# EAGLE library part ASSMANN_WSW_COMPONENTS_ASUB-277-37TP25 (library Upverter Library)
CONN D-SUB PLUG/RCPT 37POS R/A
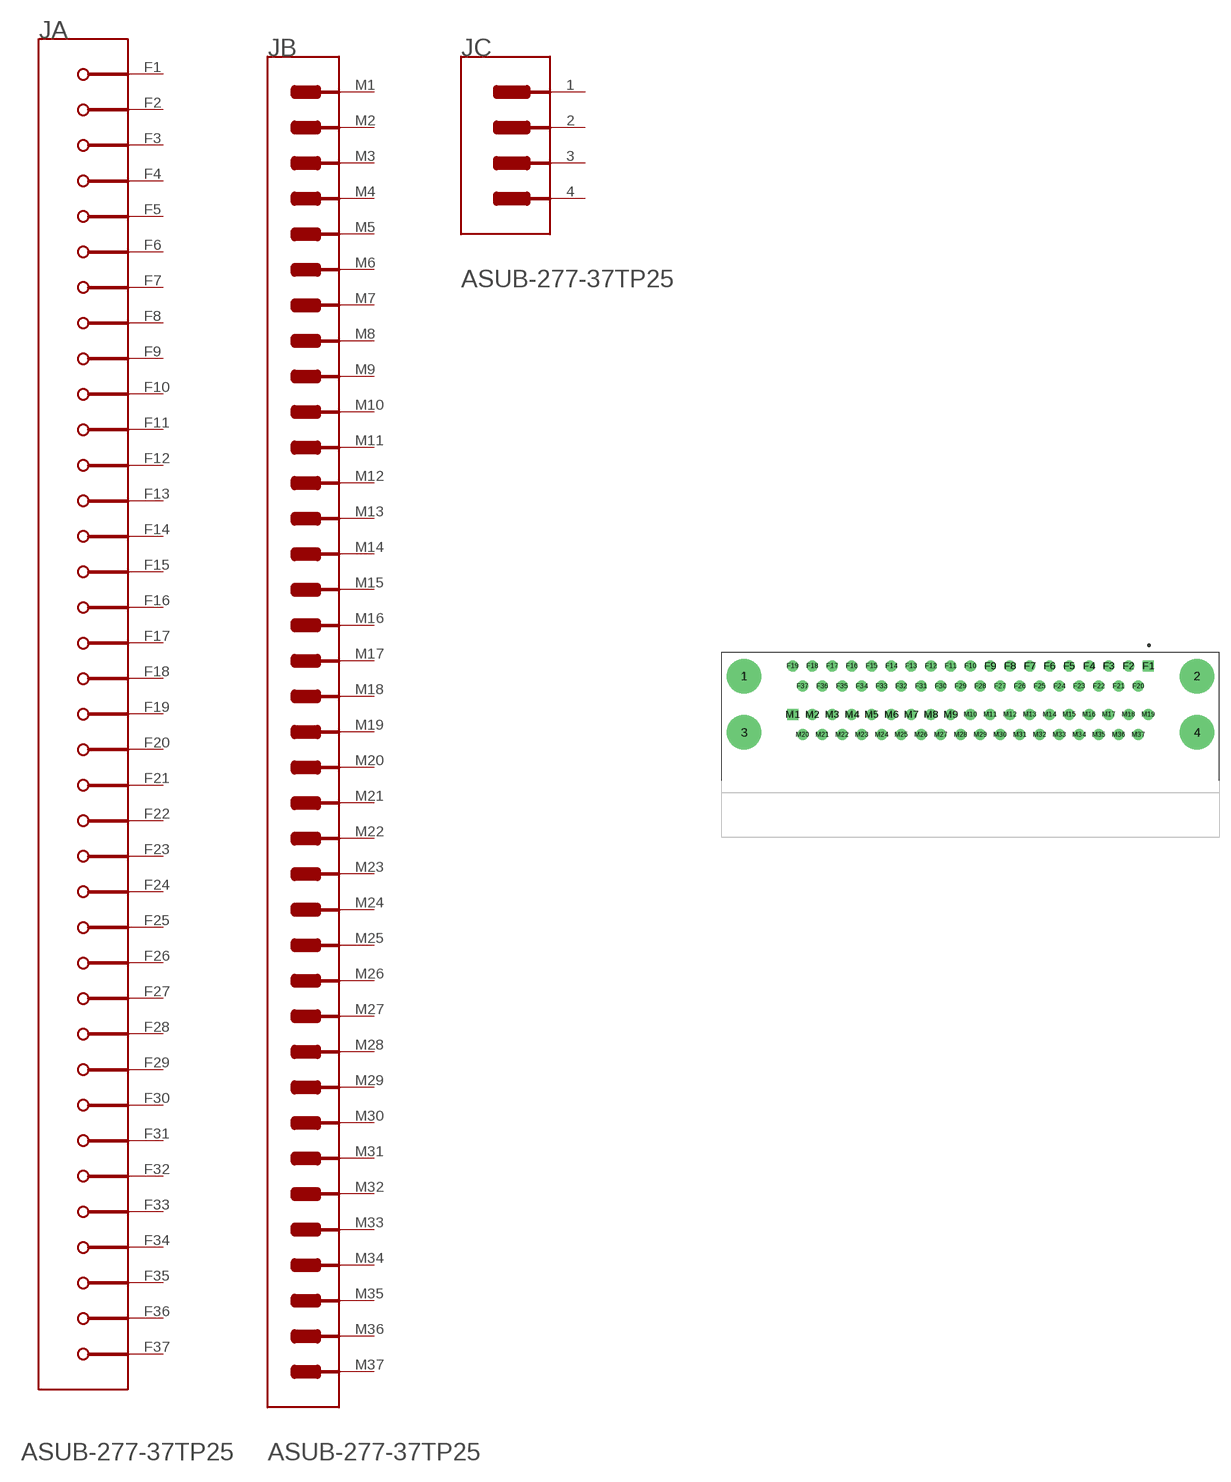
[diagram p0: symbol with the pads of ASSMANN_WSW_COMPONENTS_ASUB-277-37TP25_0; footprint ASSMANN_WSW_COMPONENTS_ASUB-277-37TP25_0]

Designator prefix J; gates A=ASSMANN_WSW_COMPONENTS_ASUB-277-37TP25_0_0 B=ASSMANN_WSW_COMPONENTS_ASUB-277-37TP25_0_1 C=ASSMANN_WSW_COMPONENTS_ASUB-277-37TP25_0_2

## ASSMANN_WSW_COMPONENTS_ASUB-277-37TP25ASSMANN_WSW_COMPONENTS_ASUB-277-37TP25_0_0 (MF: ASSMANN WSW Components; MPN: ASUB-277-37TP25; automotive: No; centroid_not_specified: No; conn_orientation: Right Angle; contact_material: Gold,Nickel; current_rating: 3A; datasheet: http://www.assmann-wsw.com/fileadmin/datasheets/ASS_6549_CO.pdf; device_class_L1: Connectors; device_class_L2: D-Sub Connectors; device_class_L3: unset; digikey_description: CONN D-SUB PLUG/RCPT 37POS R/A; digikey_part_number: AE10967-ND; footprint_variant_name_0: Recommended_Land_Pattern; height: 32.05mm; is_female: yes; lead_free: Yes; mfg_package_ident: 0; mfg_package_ident_date: 0; mfg_package_ident_rev: 0; number_of_contacts: 74; package: CONN_D-SUB37_DUAL; pitch: 2.77mm; prefix: J; rohs: Yes; shielding: true; temperature_range_high: +105°C; temperature_range_low: -55°C; verification_version: 0.0.0.3; voltage_rating: 250V)  [ASSMANN_WSW_COMPONENTS_ASUB-277-37TP25_0]
1  C:MNT_1  pas
2  C:MNT_2  pas
3  C:MNT_3  pas
4  C:MNT_4  pas
F1  A:F1  pas
F2  A:F2  pas
F3  A:F3  pas
F4  A:F4  pas
F5  A:F5  pas
F6  A:F6  pas
F7  A:F7  pas
F8  A:F8  pas
F9  A:F9  pas
F10  A:F10  pas
F11  A:F11  pas
F12  A:F12  pas
F13  A:F13  pas
F14  A:F14  pas
F15  A:F15  pas
F16  A:F16  pas
F17  A:F17  pas
F18  A:F18  pas
F19  A:F19  pas
F20  A:F20  pas
F21  A:F21  pas
F22  A:F22  pas
F23  A:F23  pas
F24  A:F24  pas
F25  A:F25  pas
F26  A:F26  pas
F27  A:F27  pas
F28  A:F28  pas
F29  A:F29  pas
F30  A:F30  pas
F31  A:F31  pas
F32  A:F32  pas
F33  A:F33  pas
F34  A:F34  pas
F35  A:F35  pas
F36  A:F36  pas
F37  A:F37  pas
M1  B:M1  pas
M2  B:M2  pas
M3  B:M3  pas
M4  B:M4  pas
M5  B:M5  pas
M6  B:M6  pas
M7  B:M7  pas
M8  B:M8  pas
M9  B:M9  pas
M10  B:M10  pas
M11  B:M11  pas
M12  B:M12  pas
M13  B:M13  pas
M14  B:M14  pas
M15  B:M15  pas
M16  B:M16  pas
M17  B:M17  pas
M18  B:M18  pas
M19  B:M19  pas
M20  B:M20  pas
M21  B:M21  pas
M22  B:M22  pas
M23  B:M23  pas
M24  B:M24  pas
M25  B:M25  pas
M26  B:M26  pas
M27  B:M27  pas
M28  B:M28  pas
M29  B:M29  pas
M30  B:M30  pas
M31  B:M31  pas
M32  B:M32  pas
M33  B:M33  pas
M34  B:M34  pas
M35  B:M35  pas
M36  B:M36  pas
M37  B:M37  pas

## Footprint ASSMANN_WSW_COMPONENTS_ASUB-277-37TP25_0 (pad centres in mm)
CONN D-SUB PLUG/RCPT 37POS R/A
drill 3.2 pad 4.85 round: 1 -31.75,9.65; 2 31.75,9.65; 3 -31.75,1.75; 4 31.75,1.75
drill 1 pad 1.55 square: F1 24.93,11.07; M1 -24.93,4.27
drill 1 pad 1.55 round: F2 22.16,11.07; F3 19.39,11.07; F4 16.62,11.07; F5 13.85,11.07; F6 11.08,11.07; F7 8.31,11.07; F8 5.54,11.07; F9 2.77,11.07; F10 0,11.07; F11 -2.77,11.07; F12 -5.54,11.07; F13 -8.31,11.07; F14 -11.08,11.07; F15 -13.85,11.07; F16 -16.62,11.07; F17 -19.39,11.07; F18 -22.16,11.07; F19 -24.93,11.07; F20 23.545,8.23; F21 20.775,8.23; F22 18.005,8.23; F23 15.235,8.23; F24 12.465,8.23; F25 9.695,8.23; F26 6.925,8.23; F27 4.155,8.23; F28 1.385,8.23; F29 -1.385,8.23; F30 -4.155,8.23; F31 -6.925,8.23; F32 -9.695,8.23; F33 -12.465,8.23; F34 -15.235,8.23; F35 -18.005,8.23; F36 -20.775,8.23; F37 -23.545,8.23; M2 -22.16,4.27; M3 -19.39,4.27; M4 -16.62,4.27; M5 -13.85,4.27; M6 -11.08,4.27; M7 -8.31,4.27; M8 -5.54,4.27; M9 -2.77,4.27; M10 0,4.27; M11 2.77,4.27; M12 5.54,4.27; M13 8.31,4.27; M14 11.08,4.27; M15 13.85,4.27; M16 16.62,4.27; M17 19.39,4.27; M18 22.16,4.27; M19 24.93,4.27; M20 -23.545,1.43; M21 -20.775,1.43; M22 -18.005,1.43; M23 -15.235,1.43; M24 -12.465,1.43; M25 -9.695,1.43; M26 -6.925,1.43; M27 -4.155,1.43; M28 -1.385,1.43; M29 1.385,1.43; M30 4.155,1.43; M31 6.925,1.43; M32 9.695,1.43; M33 12.465,1.43; M34 15.235,1.43; M35 18.005,1.43; M36 20.775,1.43; M37 23.545,1.43